# Altium footprint library Resistors_rus.PCBLIB: 80 footprints (part 1 of 5)
Each footprint in its own frame and in the unit in brackets; x right, y up, seen from the top. Pads: shape width x height; smd on the part's side, far side on the other; paste and mask are expansions set on the pad; w line width, h text height; cw(c..) or ccw(c..) is an arc to the next point about the centre after c.
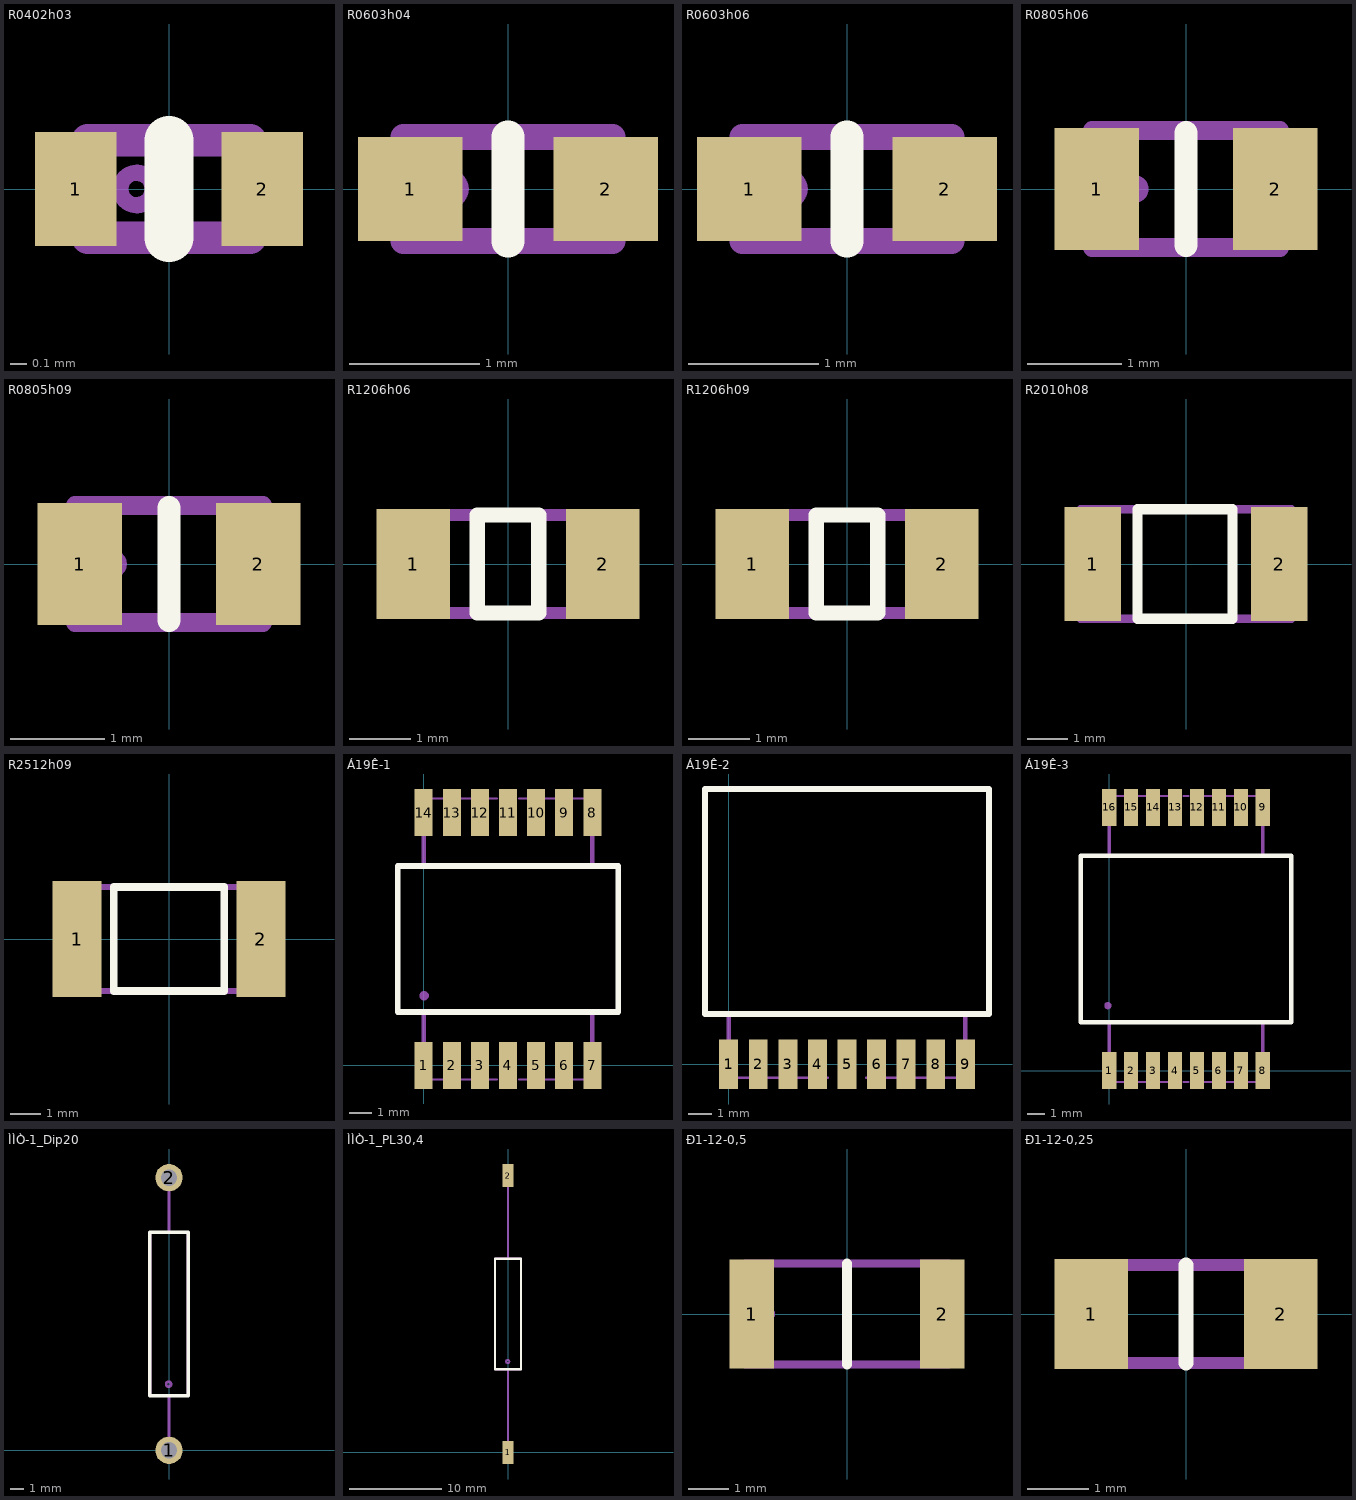
[diagram p0: the footprints below, top view; thin cyan lines are the x and y axes]

## R0402h03 [mm]
height 0.3
pads (2):
  rect 0.5x0.7 smd: 1(-0.575,0) 2(0.575,0)
Top Overlay:
  lines w0.3: 0,-0.3 0,0.3
Mechanical 1:
  circle w0.1: c-0.2,0 r0.1
  lines w0.2: -0.5,-0.3 -0.5,0.3 0.5,0.3 0.5,-0.3 -0.5,-0.3
  text ".Designator" at -0.45,0.7 h1.5
3D body: height 0.3, standoff 0, extent -0.6,-0.35 0.6,0.35

## R0603h04 [mm]
height 0.4
pads (2):
  rect 0.8x0.8 smd: 1(-0.75,0) 2(0.75,0)
Top Overlay:
  lines w0.25: 0,-0.4 0,0.4
Mechanical 1:
  circle w0.1: c-0.45,0 r0.1
  lines w0.2: -0.8,-0.4 -0.8,0.4 0.8,0.4 0.8,-0.4 -0.8,-0.4
  text ".Designator" at -0.7,0.7 h1.5
3D body: height 0.4, standoff 0, extent -0.85,-0.45 0.85,0.45

## R0603h06 [mm]
height 0.6
pads (2):
  rect 0.8x0.8 smd: 1(-0.75,0) 2(0.75,0)
Top Overlay:
  lines w0.25: 0,-0.4 0,0.4
Mechanical 1:
  circle w0.1: c-0.45,0 r0.1
  lines w0.2: -0.8,-0.4 0.8,-0.4 0.8,0.4 -0.8,0.4 -0.8,-0.4
  text ".Designator" at -0.9,0.7 h1.5
3D body: height 0.6, standoff 0, extent -0.85,-0.45 0.85,0.45

## R0805h06 [mm]
height 0.6
pads (2):
  rect 0.9x1.3 smd: 1(-0.95,0) 2(0.95,0)
Top Overlay:
  lines w0.25: 0,-0.6 0,0.6
Mechanical 1:
  circle w0.1: c-0.55,0 r0.1
  lines w0.2: -1,-0.625 -1,0.625 1,0.625 1,-0.625 -1,-0.625
  text ".Designator" at -1,1 h1.5
3D body: height 0.6, standoff 0, extent -1.05,-0.675 1.05,0.675

## R0805h09 [mm]
height 0.9
pads (2):
  rect 0.9x1.3 smd: 1(-0.95,0) 2(0.95,0)
Top Overlay:
  lines w0.25: 0,-0.6 0,0.6
Mechanical 1:
  circle w0.1: c-0.6,0 r0.1
  lines w0.2: -1,-0.625 -1,0.625 1,0.625 1,-0.625 -1,-0.625
  text ".Designator" at -0.9,1 h1.5
3D body: height 0.9, standoff 0, extent -1.05,-0.675 1.05,0.675

## R1206h06 [mm]
height 0.6
pads (2):
  rect 1.2x1.8 smd: 1(-1.55,0) 2(1.55,0)
Top Overlay:
  lines w0.25: -0.5,-0.8 -0.5,0.8 0.5,0.8 0.5,-0.8 -0.5,-0.8
Mechanical 1:
  circle w0.1: c-1.1,0 r0.1
  lines w0.2: -1.6,-0.8 -1.6,0.8 1.6,0.8 1.6,-0.8 -1.6,-0.8
  text ".Designator" at -1.2,1.3 h1.5
3D body: height 0.6, standoff 0, extent -1.675,-0.9 1.675,0.9

## R1206h09 [mm]
height 0.9
pads (2):
  rect 1.2x1.8 smd: 1(-1.55,0) 2(1.55,0)
Top Overlay:
  lines w0.25: -0.5,-0.8 0.5,-0.8 0.5,0.8 -0.5,0.8 -0.5,-0.8
Mechanical 1:
  circle w0.1: c-1.125,0 r0.1
  lines w0.2: -1.6,-0.8 1.6,-0.8 1.6,0.8 -1.6,0.8 -1.6,-0.8
  text ".Designator" at -1.4,1.2 h1.5
3D body: height 0.9, standoff 0, extent -1.675,-0.9 1.675,0.9

## R2010h08 [mm]
height 0.8
pads (2):
  rect 1.4x2.8 smd: 1(-2.3,0) 2(2.3,0)
Top Overlay:
  lines w0.25: -1.2,-1.35 -1.2,1.35 1.15,1.35 1.15,-1.35 -1.2,-1.35
Mechanical 1:
  circle w0.1: c-1.975,0 r0.1
  lines w0.2: -2.6,-1.35 -2.6,1.35 2.6,1.35 2.6,-1.35 -2.6,-1.35
  text ".Designator" at -1.9,1.9 h1.5
3D body: height 0.8, standoff 0, extent -2.6,-1.35 2.6,1.35

## R2512h09 [mm]
height 0.9
pads (2):
  rect 1.6x3.8 smd: 1(-3,0) 2(3,0)
Top Overlay:
  lines w0.25: -1.8,-1.7 1.8,-1.7 1.8,1.7 -1.8,1.7 -1.8,-1.7
Mechanical 1:
  circle w0.1: c-2.775,0 r0.1
  lines w0.2: -3.3,-1.7 -3.3,1.7 3.3,1.7 3.3,-1.7 -3.3,-1.7
  text ".Designator" at -1.3,2.3 h1.5
3D body: height 0.9, standoff 0, extent -3.3,-1.7 3.3,1.7

## Á19Ê-1 [mm]
pads (14):
  rect 0.8x2.1 smd: 1(0,0) 2(1.25,0) 3(2.5,0) 4(3.75,0) 5(5,0) 6(6.25,0) 7(7.5,0) 8(7.5,11.25) 9(6.25,11.25) 10(5,11.25) 11(3.75,11.25) 12(2.5,11.25) 13(1.25,11.25) 14(0,11.25)
Top Overlay:
  lines w0.25: -1.15,2.375 -1.15,8.875 8.65,8.875 8.65,2.375 -1.15,2.375
Mechanical 1:
  circle w0.25: c0.02,3.1 r0.08
  lines w0.1: 0,-0.625 3.25,-0.625 ; 0,11.875 3.25,11.875 ; 3.6,-0.625 3.9,-0.625 ; 3.6,11.875 3.9,11.875 ; 4.25,-0.625 7.5,-0.625 ; 4.25,11.875 7.5,11.875
  lines w0.2: 0,-0.625 0,2.375 ; 0,8.875 0,11.875 ; 7.5,-0.625 7.5,2.375 ; 7.5,8.875 7.5,11.875 ; -1.15,2.375 -1.15,8.875 8.65,8.875 8.65,2.375 -1.15,2.375
  text ".Designator" at 1.93,6.4 h1.5
  text ".Comment" at 0.34,4.7 h1.5
  text "14" at 0.625,10 h1.5
3D body: height 1.97, standoff 0, extent -1.25,-0.6 8.75,11.9

## Á19Ê-2 [mm]
pads (9):
  rect 0.8x2.1 smd: 1(0,0) 2(1.25,0) 3(2.5,0) 4(3.75,0) 5(5,0) 6(6.25,0) 7(7.5,0) 8(8.75,0) 9(10,0)
Top Overlay:
  lines w0.25: -1,2.125 11,2.125 11,11.625 -1,11.625 -1,2.125
Mechanical 1:
  lines w0.1: 0,-0.575 4.2,-0.575 ; 4.75,-0.575 5.25,-0.575 ; 5.8,-0.575 10,-0.575
  lines w0.2: 0,-0.575 0,2.125 ; 10,-0.575 10,2.125 ; -1,2.125 11,2.125 11,11.625 -1,11.625 -1,2.125
  text ".Designator" at 3.73,7.5 h1.5
  text ".Comment" at 2.14,5.8 h1.5
  text "9" at 10,3.125 h1.5
  text "1" at 0,3.125 h1.5

## Á19Ê-3 [mm]
pads (16):
  rect 0.8x2.1 smd: 1(0,0) 2(1.25,0) 3(2.5,0) 4(3.75,0) 5(5,0) 6(6.25,0) 7(7.5,0) 8(8.75,0) 9(8.75,15) 10(7.5,15) 11(6.25,15) 12(5,15) 13(3.75,15) 14(2.5,15) 15(1.25,15) 16(0,15)
Top Overlay:
  lines w0.25: -1.625,2.75 -1.625,12.25 10.375,12.25 10.375,2.75 -1.625,2.75
Mechanical 1:
  circle w0.25: c-0.08,3.7 r0.08
  lines w0.1: 0,-0.65 3.875,-0.65 ; 0,15.65 3.875,15.65 ; 4.225,-0.65 4.525,-0.65 ; 4.225,15.65 4.525,15.65 ; 4.875,-0.65 8.75,-0.65 ; 4.875,15.65 8.75,15.65
  lines w0.2: 0,-0.65 0,2.75 ; 0,12.25 0,15.65 ; 8.75,-0.65 8.75,2.75 ; 8.75,12.25 8.75,15.65 ; -1.625,2.75 -1.625,12.25 10.375,12.25 10.375,2.75 -1.625,2.75
  text ".Designator" at 2.93,8.1 h1.5
  text ".Comment" at 1.34,6.4 h1.5
  text "16" at 0.625,13.75 h1.5
3D body: height 2.5, standoff 0, extent -1.425,-0.6 10.175,15.7

## ÌÌÒ-1_Dip20 [mm]
pads (2):
  round 2 hole 1.2: 1(0,0) 2(0,20)
Top Overlay:
  lines w0.25: -1.4,4 1.4,4 1.4,16 -1.4,16 -1.4,4
Mechanical 1:
  circle w0.2: c-0.03,4.85 r0.18
  lines w0.2: 0,0 0,4 ; 0,16 0,20 ; -1.4,4 1.4,4 1.4,16 -1.4,16 -1.4,4
  text ".Designator" at 0.4,7.6 h1.5

## ÌÌÒ-1_PL30,4 [mm]
pads (2):
  rect 1.2x2.5 smd: 1(0,0) 2(0,30)
Top Overlay:
  lines w0.25: -1.4,9 1.4,9 1.4,21 -1.4,21 -1.4,9
Mechanical 1:
  circle w0.2: c-0.03,9.85 r0.18
  lines w0.2: 0,-0.2 0,9 ; 0,21 0,30.2 ; -1.4,9 1.4,9 1.4,21 -1.4,21 -1.4,9
  text ".Designator" at 0.4,13.6 h1.5

## Ð1-12-0,5 [mm]
pads (2):
  rect 1.1x2.7 smd: 1(-2.35,0) 2(2.35,0)
Top Overlay:
  lines w0.25: 0,-1.25 0,1.25
Mechanical 1:
  circle w0.1: c-1.925,0 r0.1
  lines w0.2: -2.5,-1.25 -2.5,1.25 2.5,1.25 2.5,-1.25 -2.5,-1.25
  text ".Designator" at -1.4,1.6 h1.5

## Ð1-12-0,25 [mm]
height 0.6
pads (2):
  rect 1.2x1.8 smd: 1(-1.55,0) 2(1.55,0)
Top Overlay:
  lines w0.25: 0,-0.8 0,0.8
Mechanical 1:
  circle w0.1: c-1.225,0 r0.1
  lines w0.2: -1.6,-0.8 1.6,-0.8 1.6,0.8 -1.6,0.8 -1.6,-0.8
  text ".Designator" at -0.75,1.5 h1.5
3D body: height 0.8, standoff 0, extent -1.675,-0.875 1.675,0.875